# EAGLE library part ITSYBITSY_M4_NC (library ItsyBitsy_Expander_v1.1)
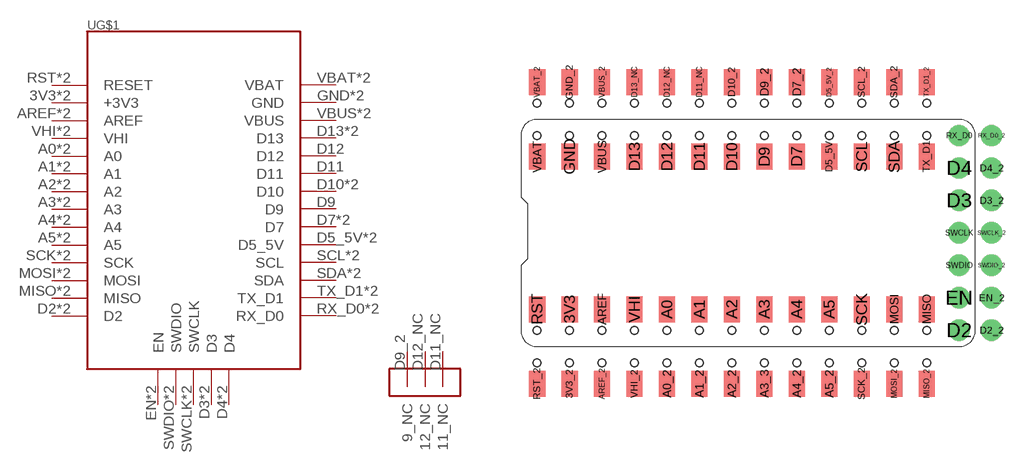
[diagram p4: symbol with the pads of ITSYBITSY_M4_MIXED_DOUBLEHEADERS_ALL_NC; footprint ITSYBITSY_M4_MIXED_DOUBLEHEADERS_ALL_NC]

Designator prefix -; gates G$1=ITSYBITSY_M4 G$2=ITSYBITSY_NC_PADS

## ITSYBITSY_M4_NC  [ITSYBITSY_M4_MIXED_DOUBLEHEADERS_ALL_NC]
3V3  G$1:+3V3
3V3_2  G$1:+3V3
A0  G$1:A0
A0_2  G$1:A0
A1  G$1:A1
A1_2  G$1:A1
A2  G$1:A2
A2_2  G$1:A2
A3  G$1:A3
A3_3  G$1:A3
A4  G$1:A4
A4_2  G$1:A4
A5  G$1:A5
A5_2  G$1:A5
AREF  G$1:AREF
AREF_2  G$1:AREF
D2  G$1:D2
D2_2  G$1:D2
D3  G$1:D3
D3_2  G$1:D3
D4  G$1:D4
D4_2  G$1:D4
D5_5V  G$1:D5_5V
D5_5V_2  G$1:D5_5V
D7  G$1:D7
D7_2  G$1:D7
D9  G$1:D9
D9_2  G$2:9_NC
D10  G$1:D10
D10_2  G$1:D10
D11  G$1:D11
D11_NC  G$2:11_NC
D12  G$1:D12
D12_NC  G$2:12_NC
D13  G$1:D13
D13_NC  G$1:D13
EN  G$1:EN
EN_2  G$1:EN
GND  G$1:GND
GND_2  G$1:GND
MISO  G$1:MISO
MISO_2  G$1:MISO
MOSI  G$1:MOSI
MOSI_2  G$1:MOSI
RST  G$1:RESET
RST_2  G$1:RESET
RX_D0  G$1:RX_D0
RX_D0_2  G$1:RX_D0
SCK  G$1:SCK
SCK_2  G$1:SCK
SCL  G$1:SCL
SCL_2  G$1:SCL
SDA  G$1:SDA
SDA_2  G$1:SDA
SWCLK  G$1:SWCLK
SWCLK_2  G$1:SWCLK
SWDIO  G$1:SWDIO
SWDIO_2  G$1:SWDIO
TX_D1  G$1:TX_D1
TX_D1_2  G$1:TX_D1
VBAT  G$1:VBAT
VBAT_2  G$1:VBAT
VBUS  G$1:VBUS
VBUS_2  G$1:VBUS
VHI  G$1:VHI
VHI_2  G$1:VHI

## Footprint ITSYBITSY_M4_MIXED_DOUBLEHEADERS_ALL_NC (pad centres in mm)
smd 1.27 x 2.032: 3V3 -13.97,-5.969; 3V3_2 -13.97,-11.811; A0 -6.35,-5.969; A0_2 -6.35,-11.811; A1 -3.81,-5.969; A1_2 -3.81,-11.811; A2 -1.27,-5.969; A2_2 -1.27,-11.811; A3 1.27,-5.969; A3_3 1.27,-11.811; A4 3.81,-5.969; A4_2 3.81,-11.811; A5 6.35,-5.969; A5_2 6.35,-11.811; AREF -11.43,-5.969; AREF_2 -11.43,-11.811; D5_5V 6.35,5.969; D5_5V_2 6.35,11.811; D7 3.81,5.969; D7_2 3.81,11.811; D9 1.27,5.969; D9_2 1.27,11.811; D10 -1.27,5.969; D10_2 -1.27,11.811; D11 -3.81,5.969; D11_NC -3.81,11.811; D12 -6.35,5.969; D12_NC -6.35,11.811; D13 -8.89,5.969; D13_NC -8.89,11.811; GND -13.97,5.969; GND_2 -13.97,11.811; MISO 13.97,-5.969; MISO_2 13.97,-11.811; MOSI 11.43,-5.969; MOSI_2 11.43,-11.811; RST -16.51,-5.969; RST_2 -16.51,-11.811; SCK 8.89,-5.969; SCK_2 8.89,-11.811; SCL 8.89,5.969; SCL_2 8.89,11.811; SDA 11.43,5.969; SDA_2 11.43,11.811; TX_D1 13.97,5.969; TX_D1_2 13.97,11.811; VBAT -16.51,5.969; VBAT_2 -16.51,11.811; VBUS -11.43,5.969; VBUS_2 -11.43,11.811; VHI -8.89,-5.969; VHI_2 -8.89,-11.811
drill 1 pad 1.676: D2 16.51,-7.62; D2_2 19.05,-7.62; D3 16.51,2.54; D3_2 19.05,2.54; D4 16.51,5.08; D4_2 19.05,5.08; EN 16.51,-5.08; EN_2 19.05,-5.08; RX_D0 16.51,7.62; RX_D0_2 19.05,7.62; SWCLK 16.51,0; SWCLK_2 19.05,0; SWDIO 16.51,-2.54; SWDIO_2 19.05,-2.54